# EAGLE library part TS3A5018 (library amplifier)
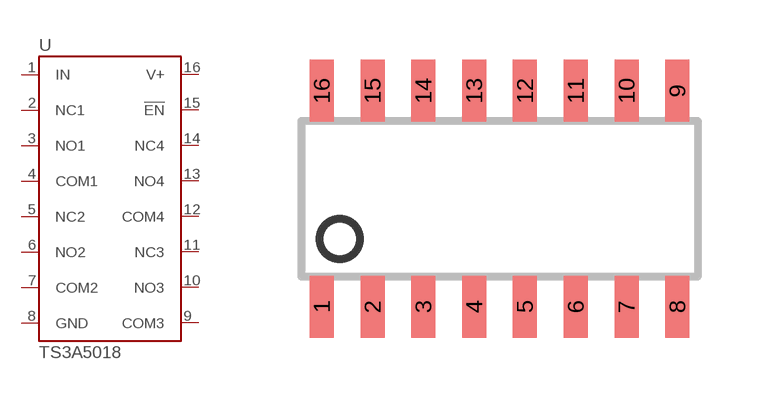
[diagram p2: symbol with the pads of 16-SOIC; footprint 16-SOIC]

Designator prefix U

## TS3A501816-SOIC  [16-SOIC]
1  IN  in
2  NC1
3  NO1
4  COM1
5  NC2
6  NO2
7  COM2
8  GND  pwr
9  COM3
10  NO3
11  NC3
12  COM4
13  NO4
14  NC4
15  !EN  in
16  V+  pwr

## Footprint 16-SOIC (pad centres in mm)
smd 0.6 x 1.55: 1 -4.445,-2.7; 2 -3.175,-2.7; 3 -1.905,-2.7; 4 -0.635,-2.7; 5 0.635,-2.7; 6 1.905,-2.7; 7 3.175,-2.7; 8 4.445,-2.7; 9 4.445,2.7; 10 3.175,2.7; 11 1.905,2.7; 12 0.635,2.7; 13 -0.635,2.7; 14 -1.905,2.7; 15 -3.175,2.7; 16 -4.445,2.7